# Altium schematic symbol library MCXA156VMP.SchLib: 1 symbol
Pins are listed as number, name and electrical type; pins without a type are passive.

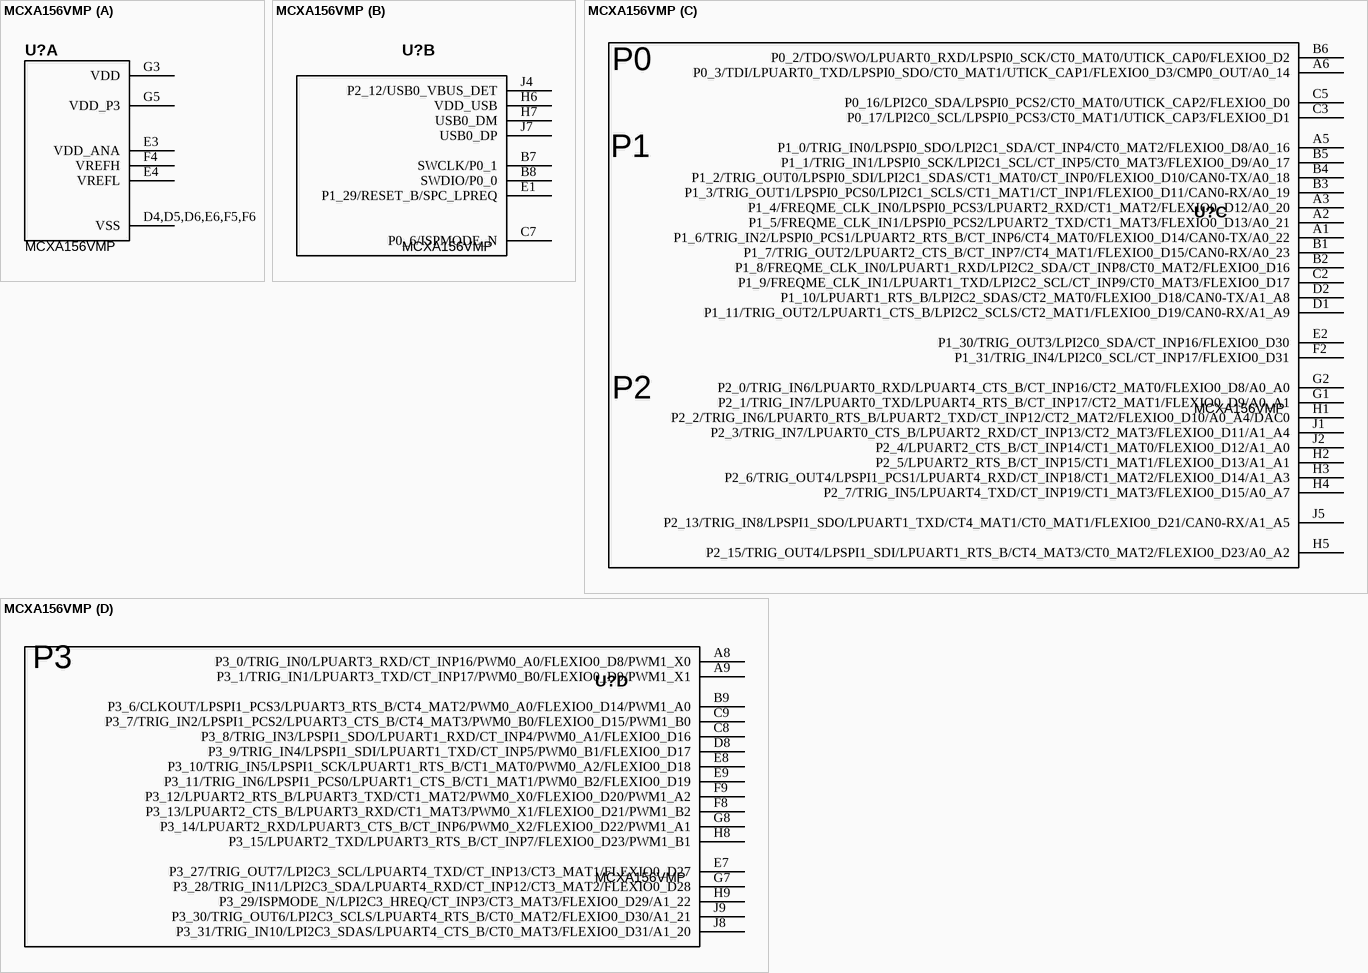
[diagram p0: symbol MCXA156VMP]

## MCXA156VMP
designator U?
ARM Microcontrollers - MCU MCXA18,1MB Flash, 128KB RAM, 64BGA; Manufacturer: NXP; Value: MCXA156VMP; Manufacturer Part Number: MCXA156VMP; JLCPCB Part #: C9900150709
footprint LFBGA64
part A pins: D4,D5,D6,E6,F5,F6 VSS, E3 VDD_ANA, E4 VREFL, F4 VREFH, G3 VDD, G5 VDD_P3
part B pins: B7 SWCLK/P0_1, B8 SWDIO/P0_0, C7 P0_6/ISPMODE_N, E1 P1_29/RESET_B/SPC_LPREQ, H6 VDD_USB, H7 USB0_DM, J4 P2_12/USB0_VBUS_DET, J7 USB0_DP
part C pins: A1 P1_6/TRIG_IN2/LPSPI0_PCS1/LPUART2_RTS_B/CT_INP6/CT4_MAT0/FLEXIO0_D14/CAN0-TX/A0_22, A2 P1_5/FREQME_CLK_IN1/LPSPI0_PCS2/LPUART2_TXD/CT1_MAT3/FLEXIO0_D13/A0_21, A3 P1_4/FREQME_CLK_IN0/LPSPI0_PCS3/LPUART2_RXD/CT1_MAT2/FLEXIO0_D12/A0_20, A5 P1_0/TRIG_IN0/LPSPI0_SDO/LPI2C1_SDA/CT_INP4/CT0_MAT2/FLEXIO0_D8/A0_16, A6 P0_3/TDI/LPUART0_TXD/LPSPI0_SDO/CT0_MAT1/UTICK_CAP1/FLEXIO0_D3/CMP0_OUT/A0_14, B1 P1_7/TRIG_OUT2/LPUART2_CTS_B/CT_INP7/CT4_MAT1/FLEXIO0_D15/CAN0-RX/A0_23, B2 P1_8/FREQME_CLK_IN0/LPUART1_RXD/LPI2C2_SDA/CT_INP8/CT0_MAT2/FLEXIO0_D16, B3 P1_3/TRIG_OUT1/LPSPI0_PCS0/LPI2C1_SCLS/CT1_MAT1/CT_INP1/FLEXIO0_D11/CAN0-RX/A0_19, B4 P1_2/TRIG_OUT0/LPSPI0_SDI/LPI2C1_SDAS/CT1_MAT0/CT_INP0/FLEXIO0_D10/CAN0-TX/A0_18, B5 P1_1/TRIG_IN1/LPSPI0_SCK/LPI2C1_SCL/CT_INP5/CT0_MAT3/FLEXIO0_D9/A0_17, B6 P0_2/TDO/SWO/LPUART0_RXD/LPSPI0_SCK/CT0_MAT0/UTICK_CAP0/FLEXIO0_D2, C2 P1_9/FREQME_CLK_IN1/LPUART1_TXD/LPI2C2_SCL/CT_INP9/CT0_MAT3/FLEXIO0_D17, C3 P0_17/LPI2C0_SCL/LPSPI0_PCS3/CT0_MAT1/UTICK_CAP3/FLEXIO0_D1, C5 P0_16/LPI2C0_SDA/LPSPI0_PCS2/CT0_MAT0/UTICK_CAP2/FLEXIO0_D0, D1 P1_11/TRIG_OUT2/LPUART1_CTS_B/LPI2C2_SCLS/CT2_MAT1/FLEXIO0_D19/CAN0-RX/A1_A9, D2 P1_10/LPUART1_RTS_B/LPI2C2_SDAS/CT2_MAT0/FLEXIO0_D18/CAN0-TX/A1_A8, E2 P1_30/TRIG_OUT3/LPI2C0_SDA/CT_INP16/FLEXIO0_D30, F2 P1_31/TRIG_IN4/LPI2C0_SCL/CT_INP17/FLEXIO0_D31, G1 P2_1/TRIG_IN7/LPUART0_TXD/LPUART4_RTS_B/CT_INP17/CT2_MAT1/FLEXIO0_D9/A0_A1, G2 P2_0/TRIG_IN6/LPUART0_RXD/LPUART4_CTS_B/CT_INP16/CT2_MAT0/FLEXIO0_D8/A0_A0, H1 P2_2/TRIG_IN6/LPUART0_RTS_B/LPUART2_TXD/CT_INP12/CT2_MAT2/FLEXIO0_D10/A0_A4/DAC0, H2 P2_5/LPUART2_RTS_B/CT_INP15/CT1_MAT1/FLEXIO0_D13/A1_A1, H3 P2_6/TRIG_OUT4/LPSPI1_PCS1/LPUART4_RXD/CT_INP18/CT1_MAT2/FLEXIO0_D14/A1_A3, H4 P2_7/TRIG_IN5/LPUART4_TXD/CT_INP19/CT1_MAT3/FLEXIO0_D15/A0_A7, H5 P2_15/TRIG_OUT4/LPSPI1_SDI/LPUART1_RTS_B/CT4_MAT3/CT0_MAT2/FLEXIO0_D23/A0_A2, J1 P2_3/TRIG_IN7/LPUART0_CTS_B/LPUART2_RXD/CT_INP13/CT2_MAT3/FLEXIO0_D11/A1_A4, J2 P2_4/LPUART2_CTS_B/CT_INP14/CT1_MAT0/FLEXIO0_D12/A1_A0, J5 P2_13/TRIG_IN8/LPSPI1_SDO/LPUART1_TXD/CT4_MAT1/CT0_MAT1/FLEXIO0_D21/CAN0-RX/A1_A5
part D pins: A8 P3_0/TRIG_IN0/LPUART3_RXD/CT_INP16/PWM0_A0/FLEXIO0_D8/PWM1_X0, A9 P3_1/TRIG_IN1/LPUART3_TXD/CT_INP17/PWM0_B0/FLEXIO0_D9/PWM1_X1, B9 P3_6/CLKOUT/LPSPI1_PCS3/LPUART3_RTS_B/CT4_MAT2/PWM0_A0/FLEXIO0_D14/PWM1_A0, C8 P3_8/TRIG_IN3/LPSPI1_SDO/LPUART1_RXD/CT_INP4/PWM0_A1/FLEXIO0_D16, C9 P3_7/TRIG_IN2/LPSPI1_PCS2/LPUART3_CTS_B/CT4_MAT3/PWM0_B0/FLEXIO0_D15/PWM1_B0, D8 P3_9/TRIG_IN4/LPSPI1_SDI/LPUART1_TXD/CT_INP5/PWM0_B1/FLEXIO0_D17, E7 P3_27/TRIG_OUT7/LPI2C3_SCL/LPUART4_TXD/CT_INP13/CT3_MAT1/FLEXIO0_D27, E8 P3_10/TRIG_IN5/LPSPI1_SCK/LPUART1_RTS_B/CT1_MAT0/PWM0_A2/FLEXIO0_D18, E9 P3_11/TRIG_IN6/LPSPI1_PCS0/LPUART1_CTS_B/CT1_MAT1/PWM0_B2/FLEXIO0_D19, F8 P3_13/LPUART2_CTS_B/LPUART3_RXD/CT1_MAT3/PWM0_X1/FLEXIO0_D21/PWM1_B2, F9 P3_12/LPUART2_RTS_B/LPUART3_TXD/CT1_MAT2/PWM0_X0/FLEXIO0_D20/PWM1_A2, G7 P3_28/TRIG_IN11/LPI2C3_SDA/LPUART4_RXD/CT_INP12/CT3_MAT2/FLEXIO0_D28, G8 P3_14/LPUART2_RXD/LPUART3_CTS_B/CT_INP6/PWM0_X2/FLEXIO0_D22/PWM1_A1, H8 P3_15/LPUART2_TXD/LPUART3_RTS_B/CT_INP7/FLEXIO0_D23/PWM1_B1, H9 P3_29/ISPMODE_N/LPI2C3_HREQ/CT_INP3/CT3_MAT3/FLEXIO0_D29/A1_22, J8 P3_31/TRIG_IN10/LPI2C3_SDAS/LPUART4_CTS_B/CT0_MAT3/FLEXIO0_D31/A1_20, J9 P3_30/TRIG_OUT6/LPI2C3_SCLS/LPUART4_RTS_B/CT0_MAT2/FLEXIO0_D30/A1_21
part C text: P0; P1; P2
part D text: P3